# Altium schematic symbol library NOR_5PIN.SchLib: 1 symbol
Pins are listed as number, name and electrical type; pins without a type are passive.

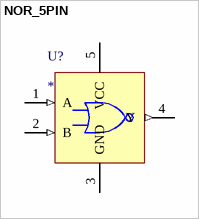
[diagram p0: symbol NOR_5PIN]

## NOR_5PIN
designator U?
pins: 1 A (in), 2 B (in), 3 GND (power), 4 Y (out), 5 VCC (power)